# Altium footprint library 10-Pcblib_Xtal.PcbLib: 28 footprints (part 1 of 2)
Each footprint in its own frame and in the unit in brackets; x right, y up, seen from the top. Pads: shape width x height; smd on the part's side, far side on the other; paste and mask are expansions set on the pad; w line width, h text height; cw(c..) or ccw(c..) is an arc to the next point about the centre after c.
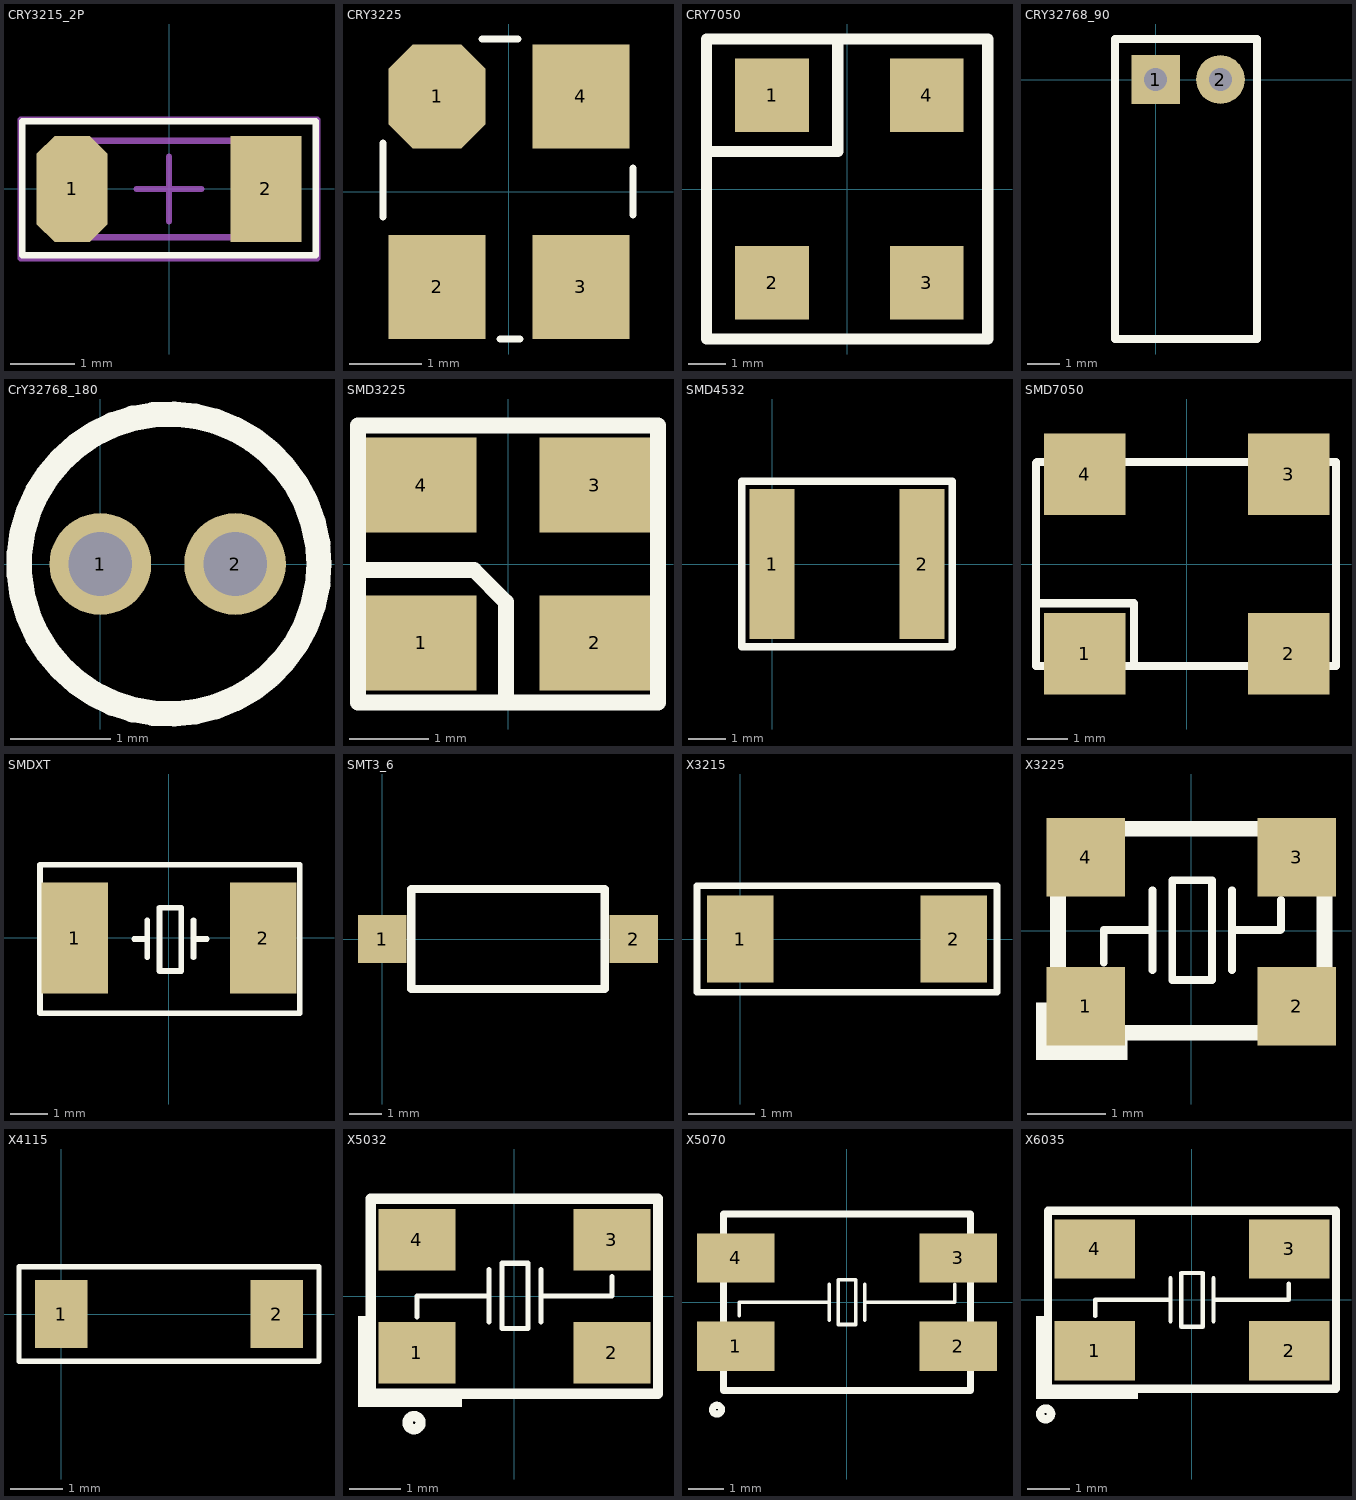
[diagram p0: the footprints below, top view; thin cyan lines are the x and y axes]

## CRY3215_2P [mm] "Chip Capacitor, 2-Leads, Body 3.2x1.5mm, IPC Medium Density"
height 0.75
pads (2):
  oct 1.1x1.65 smd: 1(-1.5,0)
  rect 1.1x1.65 smd: 2(1.5,0)
Top Overlay:
  lines w0.1: -2.275,-1.025 -2.275,1.05 2.275,1.05 2.275,-1.025 2.25,-1.025 -2.275,-1.025
Mechanical 13:
  lines w0.1: -1.6,-0.75 -1.6,0.75 1.6,0.75 1.6,-0.75 -1.6,-0.75
Mechanical 15:
  lines w0.1: -0.5,0 0.5,0 ; 0,-0.5 0,0.5 ; -2.3,-1.075 -2.3,1.075 2.3,1.075 2.3,-1.075 -2.3,-1.075
3D body: height 0.75, standoff 0, extent -1.6,-0.75 1.6,0.75

## CRY3225 [mm]
pads (4):
  oct 1.35x1.45 smd: 1(-1,1.325)
  rect 1.35x1.45 smd: 2(-1,-1.325) 3(1,-1.325) 4(1,1.325)
Top Overlay:
  lines w0.1: -1.75,-0.35 -1.75,0.675 ; -0.375,2.125 0.125,2.125 ; -0.125,-2.05 0.15,-2.05 ; 1.725,-0.325 1.725,0.325

## CRY7050 [mm]
height 1
pads (4):
  rect 2x2 smd: 1(-2.032,2.54) 2(-2.032,-2.54) 3(2.159,-2.54) 4(2.159,2.54)
Top Overlay:
  lines w0.305: -3.81,1.016 -0.254,1.016 -0.254,4.064 ; -3.81,-4.064 -3.81,4.064 3.81,4.064 3.81,-4.064 -3.81,-4.064
Mechanical 13:
  lines w0.1: -3.81,-4.064 -3.81,4.064 3.81,4.064 3.81,-4.064 -3.81,-4.064
3D body: height 1.2, standoff 0, extent -3.527,-2.502 3.477,2.503

## CRY32768_90 [mil]
pads (2):
  rect 60x60 hole 28: 1(0,0)
  round 60 hole 28: 2(80,0)
Top Overlay:
  lines w10: -50,-320 -50,50 125,50 125,-320 -50,-320

## CrY32768_180 [mil] "32.768k柱式晶振（未加焊）"
height 314.96
pads (2):
  round 40 hole 25: 1(0,0) 2(53,0)
Top Overlay:
  circle w10: c27,0 r59
3D body: height 354.33, standoff -118.11, extent -32.87,-59.06 85.24,59.06

## SMD3225 [mm]
pads (4):
  rect 1.4x1.2 smd: 1(-1.1,-1) 2(1.1,-1) 3(1.1,1) 4(-1.1,1)
Top Overlay:
  lines w0.2: -1.887,-0.076 -0.432,-0.076 -0.025,-0.483 -0.025,-1.727 ; -1.9,-1.753 -1.9,1.753 1.9,1.753 1.9,-1.753 -1.9,-1.753
3D body: height 0.72, standoff 0, extent -1.633,-1.236 1.567,1.264

## SMD4532 [mm]
pads (2):
  rect 1.2x4 smd: 1(0,0) 2(4,0)
Top Overlay:
  lines w0.2: -0.8,-2.2 4.8,-2.2 4.8,2.2 -0.8,2.2 -0.8,-2.2
3D body: height 4.65, standoff -0.05, extent -0.268,-2.362 4.332,2.338

## SMD7050 [mm]
pads (4):
  rect 2x2 smd: 1(-2.5,-2.2) 2(2.5,-2.2) 3(2.5,2.2) 4(-2.5,2.2)
Top Overlay:
  lines w0.203: -3.658,-0.965 -1.295,-0.965 -1.295,-2.5 ; -3.695,-2.5 -3.695,-1.25 -3.695,2.477 -3.672,2.5 3.658,2.5 3.658,-2.5 -3.695,-2.5
3D body: height 1.31, standoff 0, extent -3.525,-2.525 3.475,2.475

## SMDXT [mm]
height 1.2
pads (2):
  rect 1.8x3 smd: 1(-2.527,-0.013) 2(2.553,-0.013)
Top Overlay:
  lines w0.152: -0.927,-0.038 -0.572,-0.038 ; -0.572,-0.53 -0.572,0.47 ; 0.673,-0.53 0.673,0.47 ; 0.673,-0.038 1.029,-0.038 ; -3.462,-2.038 3.538,-2.038 3.538,1.962 -3.462,1.962 -3.462,-2.038 ; -0.241,-0.902 0.343,-0.902 0.343,0.8 -0.241,0.8 -0.241,-0.902

## SMT3_6 [mm]
pads (2):
  rect 1.5x1.5 smd: 1(0,0) 2(7.8,0)
Top Overlay:
  lines w0.254: 0.9,-1.55 6.9,-1.55 6.9,1.55 0.9,1.55 0.9,-1.55

## X3215 [mm]
pads (2):
  rect 1x1.3 smd: 1(0,0) 2(3.2,0)
Top Overlay:
  lines w0.1: -0.65,-0.8 -0.65,0.8 3.85,0.8 3.85,-0.8 -0.65,-0.8
3D body: height 0.81, standoff 0, extent 0,-0.762 3.2,0.738

## X3225 [mm]
pads (4):
  rect 1x1 smd: 1(-1.346,-0.965) 2(1.346,-0.965) 3(1.346,0.94) 4(-1.346,0.94)
Top Overlay:
  rectangle: -1.803,-1.651 -0.813,-1.397
  rectangle: -1.981,-1.651 -1.803,-0.914
  lines w0.1: -1.118,-0.406 -1.118,0.008 -0.496,0.008 ; -0.496,-0.5 -0.496,0.516 ; 0.52,-0.5 0.52,0.516 ; 0.52,0.008 1.135,0.008 1.143,0.016 ; 1.143,0.025 1.143,0.39 ; -0.242,-0.627 -0.242,0.643 0.266,0.643 0.266,0.326 0.266,-0.309 0.266,-0.627 -0.242,-0.627
  lines w0.2: -1.7,-1.3 1.7,-1.3 1.7,1.3 -1.7,1.3 -1.7,-1.3
3D body: height 0.72, standoff 0, extent -1.549,-1.281 1.651,1.219

## X4115 [mm]
pads (2):
  rect 1x1.3 smd: 1(0,0) 2(4.1,0)
Top Overlay:
  lines w0.1: -0.8,-0.9 4.9,-0.9 4.9,0.9 -0.8,0.9 -0.8,-0.851

## X5032 [mm]
pads (4):
  rect 1.5x1.2 smd: 1(-1.9,-1.1) 2(1.9,-1.1) 3(1.9,1.1) 4(-1.9,1.1)
Top Overlay:
  circle w0.2: c-1.956,-2.464 r0.127
  rectangle: -3.023,-2.159 -1.016,-1.905
  rectangle: -3.048,-2.159 -2.87,-0.381
  lines w0.1: -1.897,-0.406 -1.897,0.008 -0.496,0.008 ; -0.496,-0.5 -0.496,0.516 ; 0.52,-0.5 0.52,0.516 ; 0.52,0.008 1.902,0.008 1.905,0.016 1.905,0.381 ; -0.242,-0.627 -0.242,0.643 0.266,0.643 0.266,0.326 0.266,-0.309 0.266,-0.627 -0.242,-0.627
  lines w0.2: -2.8,-1.9 2.8,-1.9 2.8,1.9 -2.8,1.9 -2.8,-1.9
3D body: height 1, standoff 0, extent -2.5,-1.6 2.5,1.6

## X5070 [mm]
pads (4):
  rect 2.2x1.4 smd: 1(-3.15,-1.25) 2(3.15,-1.25) 3(3.15,1.25) 4(-3.15,1.25)
Top Overlay:
  circle w0.2: c-3.683,-3.048 r0.127
  lines w0.1: -3.048,-0.381 -3.048,0 -0.508,0 ; -0.508,-0.508 -0.508,0.508 ; 0.508,-0.508 0.508,0.508 ; 0.508,0 3.048,0 3.048,0.508 ; -0.254,-0.635 -0.254,0.635 0.254,0.635 0.254,-0.635 -0.254,-0.635
  lines w0.2: -3.5,-2.5 3.5,-2.5 3.5,2.5 -3.5,2.5 -3.5,-2.5
3D body: height 1.31, standoff 0, extent -3.576,-2.54 3.424,2.46

## X6035 [mm]
pads (4):
  rect 1.9x1.4 smd: 1(-2.3,-1.2) 2(2.3,-1.2) 3(2.3,1.2) 4(-2.3,1.2)
Top Overlay:
  circle w0.2: c-3.454,-2.692 r0.127
  rectangle: -3.658,-2.337 -1.27,-2.108
  rectangle: -3.683,-2.337 -3.48,-0.381
  lines w0.1: -2.286,-0.381 -2.286,0 -2.032,0 -0.508,0 ; -0.508,-0.508 -0.508,0.508 ; 0.508,-0.508 0.508,0.508 ; 0.508,0 2.286,0 2.286,0.381 ; -0.254,-0.635 -0.254,0.635 0.254,0.635 0.254,-0.635 -0.254,-0.635
  lines w0.2: -3.4,-2.1 3.4,-2.1 3.4,2.1 -3.4,2.1 -3.4,-2.1